# EAGLE library part ENCODER_MOUNT (library micromouse)
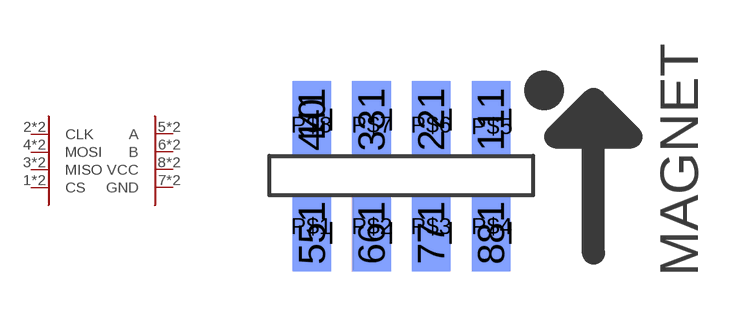
[diagram p11: symbol with the pads of ENCODER_MOUNT; footprint ENCODER_MOUNT]

Designator prefix -

## ENCODER_MOUNT  [ENCODER_MOUNT]
1  CS
1_1  CS
2  CLK
2_1  CLK
3  MISO
3_1  MISO
4  MOSI
4_1  MOSI
5  A
5_1  A
6  B
6_1  B
7  GND
7_1  GND
8  VCC
8_1  VCC

## Footprint ENCODER_MOUNT (pad centres in mm)
smd 1.27 x 2.54: 1 2.97,1.87; 2 1,1.87; 3 -0.97,1.87; 4 -2.94,1.87; 5 -2.94,-1.87; 6 -0.97,-1.87; 7 1,-1.87; 8 2.97,-1.87
smd 1.27 x 2.54 bottom: 1_1 2.97,1.873; 2_1 1,1.873; 3_1 -0.97,1.873; 4_1 -2.94,1.873; 5_1 -2.938,-1.869; 6_1 -0.968,-1.869; 7_1 1.002,-1.869; 8_1 2.972,-1.869; 10 -2.94,1.873
drill 0.7 square: P$1 -2.95,-1.65; P$2 -0.95,-1.65; P$3 1,-1.65; P$4 3,-1.65; P$5 3,1.65; P$6 1,1.7; P$7 -0.95,1.7; P$8 -2.95,1.7